# Altium footprint library WCAP-AIE8.PcbLib: 20 footprints (part 2 of 2)
Each footprint in its own frame and in the unit in brackets; x right, y up, seen from the top. Pads: shape width x height; smd on the part's side, far side on the other; paste and mask are expansions set on the pad; w line width, h text height; cw(c..) or ccw(c..) is an arc to the next point about the centre after c.
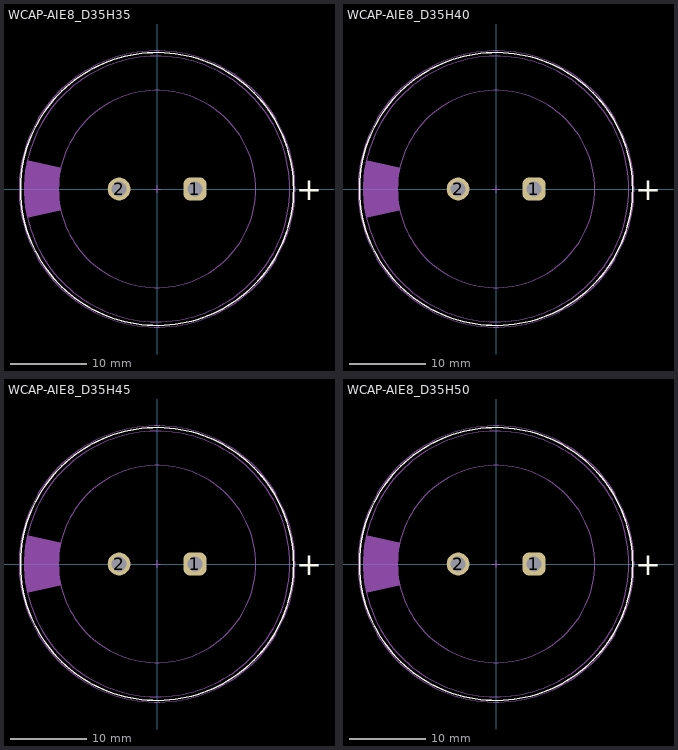
[diagram p1: the footprints below, top view; thin cyan lines are the x and y axes]

## WCAP-AIE8_D35H35 [mm] "Aluminium Electrolytic Snap-In Capacitors, 35x35mm"
height 35
pads (2):
  rrect50% 3x3 hole 2: 1(5,0)
  round 3 hole 2: 2(-5,0)
Top Overlay:
  circle w0.2: c0,0 r18
  text "+" at 18.35,-1.5 h3
Top Designator:
  text ".Designator" at -7.498,-0.5 h1.5
Top Component Outline:
  circle w0.1: c0,0 r13
  circle w0.1: c0,0 r17.5
  region: -17.083,-3.797 -12.69,-2.823 -12.69,-2.821 -12.763,-2.473 -12.879,-1.772 -12.956,-1.065 -12.995,-0.355 -12.995,0.355 -12.956,1.065 -12.879,1.772 -12.763,2.473 -12.69,2.821 -12.69,2.823 -17.083,3.797 -17.187,3.33 -17.343,2.386 -17.448,1.434 -17.5,0.479 -17.5,-0.479 -17.448,-1.434 -17.343,-2.386 -17.187,-3.33
Top 3D Body:
  circle w0.1: c0,0 r13
  circle w0.1: c0,0 r17.5
  region: -17.083,-3.797 -12.69,-2.823 -12.69,-2.821 -12.763,-2.473 -12.879,-1.772 -12.956,-1.065 -12.995,-0.355 -12.995,0.355 -12.956,1.065 -12.879,1.772 -12.763,2.473 -12.69,2.821 -12.69,2.823 -17.083,3.797 -17.187,3.33 -17.343,2.386 -17.448,1.434 -17.5,0.479 -17.5,-0.479 -17.448,-1.434 -17.343,-2.386 -17.187,-3.33
Top Courtyard:
  circle w0.05: c0,0 r18.2
  lines w0.05: -0.5,0 0.5,0 ; 0,-0.5 0,0.5
3D body "35x35.stp": height 35.09, standoff -6.05, extent -17.46,-17.5 17.5,17.499

## WCAP-AIE8_D35H40 [mm] "Aluminium Electrolytic Snap-In Capacitors, 35x40mm"
height 40
pads (2):
  rrect50% 3x3 hole 2: 1(5,0)
  round 3 hole 2: 2(-5,0)
Top Overlay:
  circle w0.2: c0,0 r18
  text "+" at 18.35,-1.5 h3
Top Designator:
  text ".Designator" at -7.498,-0.5 h1.5
Top Component Outline:
  circle w0.1: c0,0 r17.5
  circle w0.1: c0,0 r13
  region: -17.083,-3.797 -12.69,-2.823 -12.69,-2.821 -12.763,-2.473 -12.879,-1.772 -12.956,-1.065 -12.995,-0.355 -12.995,0.355 -12.956,1.065 -12.879,1.772 -12.763,2.473 -12.69,2.821 -12.69,2.823 -17.083,3.797 -17.187,3.33 -17.343,2.386 -17.448,1.434 -17.5,0.479 -17.5,-0.479 -17.448,-1.434 -17.343,-2.386 -17.187,-3.33
Top 3D Body:
  circle w0.1: c0,0 r17.5
  circle w0.1: c0,0 r13
  region: -17.083,-3.797 -12.69,-2.823 -12.69,-2.821 -12.763,-2.473 -12.879,-1.772 -12.956,-1.065 -12.995,-0.355 -12.995,0.355 -12.956,1.065 -12.879,1.772 -12.763,2.473 -12.69,2.821 -12.69,2.823 -17.083,3.797 -17.187,3.33 -17.343,2.386 -17.448,1.434 -17.5,0.479 -17.5,-0.479 -17.448,-1.434 -17.343,-2.386 -17.187,-3.33
Top Courtyard:
  circle w0.05: c0,0 r18.2
  lines w0.05: -0.5,0 0.5,0 ; 0,-0.5 0,0.5
3D body "35x40.stp": height 40.09, standoff -6.05, extent -17.46,-17.498 17.5,17.5

## WCAP-AIE8_D35H45 [mm] "Aluminium Electrolytic Snap-In Capacitors, 35x4mm"
height 45
pads (2):
  rrect50% 3x3 hole 2: 1(5,0)
  round 3 hole 2: 2(-5,0)
Top Overlay:
  circle w0.2: c0,0 r18
  text "+" at 18.35,-1.5 h3
Top Designator:
  text ".Designator" at -7.498,-0.5 h1.5
Top Component Outline:
  circle w0.1: c0,0 r13
  circle w0.1: c0,0 r17.5
  region: -17.083,-3.797 -12.69,-2.823 -12.69,-2.821 -12.763,-2.473 -12.879,-1.772 -12.956,-1.065 -12.995,-0.355 -12.995,0.355 -12.956,1.065 -12.879,1.772 -12.763,2.473 -12.69,2.821 -12.69,2.823 -17.083,3.797 -17.187,3.33 -17.343,2.386 -17.448,1.434 -17.5,0.479 -17.5,-0.479 -17.448,-1.434 -17.343,-2.386 -17.187,-3.33
Top 3D Body:
  circle w0.1: c0,0 r13
  circle w0.1: c0,0 r17.5
  region: -17.083,-3.797 -12.69,-2.823 -12.69,-2.821 -12.763,-2.473 -12.879,-1.772 -12.956,-1.065 -12.995,-0.355 -12.995,0.355 -12.956,1.065 -12.879,1.772 -12.763,2.473 -12.69,2.821 -12.69,2.823 -17.083,3.797 -17.187,3.33 -17.343,2.386 -17.448,1.434 -17.5,0.479 -17.5,-0.479 -17.448,-1.434 -17.343,-2.386 -17.187,-3.33
Top Courtyard:
  circle w0.05: c0,0 r18.2
  lines w0.05: -0.5,0 0.5,0 ; 0,-0.5 0,0.5
3D body "35x45.stp": height 45.09, standoff -6.05, extent -17.46,-17.497 17.5,17.494

## WCAP-AIE8_D35H50 [mm] "Aluminium Electrolytic Snap-In Capacitors, 35x50mm"
height 50
pads (2):
  rrect50% 3x3 hole 2: 1(5,0)
  round 3 hole 2: 2(-5,0)
Top Overlay:
  circle w0.2: c0,0 r18
  text "+" at 18.35,-1.5 h3
Top Designator:
  text ".Designator" at -7.498,-0.5 h1.5
Top Component Outline:
  circle w0.1: c0,0 r17.5
  circle w0.1: c0,0 r13
  region: -17.083,-3.797 -12.69,-2.823 -12.69,-2.821 -12.763,-2.473 -12.879,-1.772 -12.956,-1.065 -12.995,-0.355 -12.995,0.355 -12.956,1.065 -12.879,1.772 -12.763,2.473 -12.69,2.821 -12.69,2.823 -17.083,3.797 -17.187,3.33 -17.343,2.386 -17.448,1.434 -17.5,0.479 -17.5,-0.479 -17.448,-1.434 -17.343,-2.386 -17.187,-3.33
Top 3D Body:
  circle w0.1: c0,0 r17.5
  circle w0.1: c0,0 r13
  region: -17.083,-3.797 -12.69,-2.823 -12.69,-2.821 -12.763,-2.473 -12.879,-1.772 -12.956,-1.065 -12.995,-0.355 -12.995,0.355 -12.956,1.065 -12.879,1.772 -12.763,2.473 -12.69,2.821 -12.69,2.823 -17.083,3.797 -17.187,3.33 -17.343,2.386 -17.448,1.434 -17.5,0.479 -17.5,-0.479 -17.448,-1.434 -17.343,-2.386 -17.187,-3.33
Top Courtyard:
  circle w0.05: c0,0 r18.2
  lines w0.05: -0.5,0 0.5,0 ; 0,-0.5 0,0.5
3D body "35x50.stp": height 50.09, standoff -6.05, extent -17.46,-17.494 17.5,17.495